# EAGLE library part WQFN (library DRV8428PRTER)
WQFN
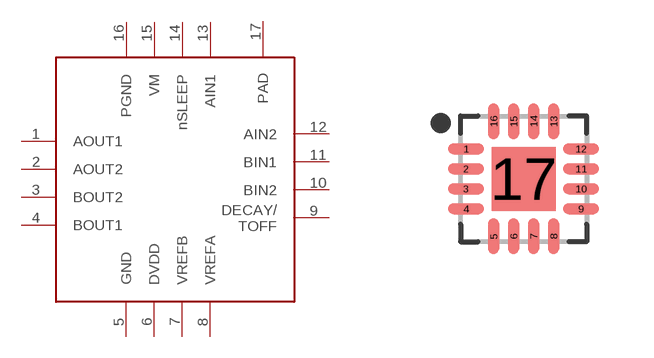
[diagram p0: symbol with the pads of QFN50P300X300X80-17T160N; footprint QFN50P300X300X80-17T160N]

Designator prefix -

## WQFN  [QFN50P300X300X80-17T160N]
1  AOUT1
2  AOUT2
3  BOUT2
4  BOUT1
5  GND
6  DVDD
7  VREFB
8  VREFA
9  DECAY/
TOFF
10  BIN2
11  BIN1
12  AIN2
13  AIN1
14  nSLEEP
15  VM
16  PGND
17  PAD

## Footprint QFN50P300X300X80-17T160N (pad centres in mm)
16-QFN, 0.50 mm pitch, 3.00 X 3.00 X 0.80 mm body, 1.60 X 1.60 mm thermal pad 16-pin QFN package with 0.50 mm pitch with body size 3.00 X 3.00 X 0.80 mm and thermal pad size 1.60 X 1.60 mm
smd 0.896 x 0.27: 1 -1.437,0.75; 2 -1.437,0.25; 3 -1.437,-0.25; 4 -1.437,-0.75; 9 1.437,-0.75; 10 1.437,-0.25; 11 1.437,0.25; 12 1.437,0.75
smd 0.27 x 0.896: 5 -0.75,-1.437; 6 -0.25,-1.437; 7 0.25,-1.437; 8 0.75,-1.437; 13 0.75,1.437; 14 0.25,1.437; 15 -0.25,1.437; 16 -0.75,1.437
smd 1.6 x 1.6: 17 0,0